# Altium footprint library Esp-01F Lib.PcbLib: 1 footprints
Each footprint in its own frame and in the unit in brackets; x right, y up, seen from the top. Pads: shape width x height; smd on the part's side, far side on the other; paste and mask are expansions set on the pad; w line width, h text height; cw(c..) or ccw(c..) is an arc to the next point about the centre after c.
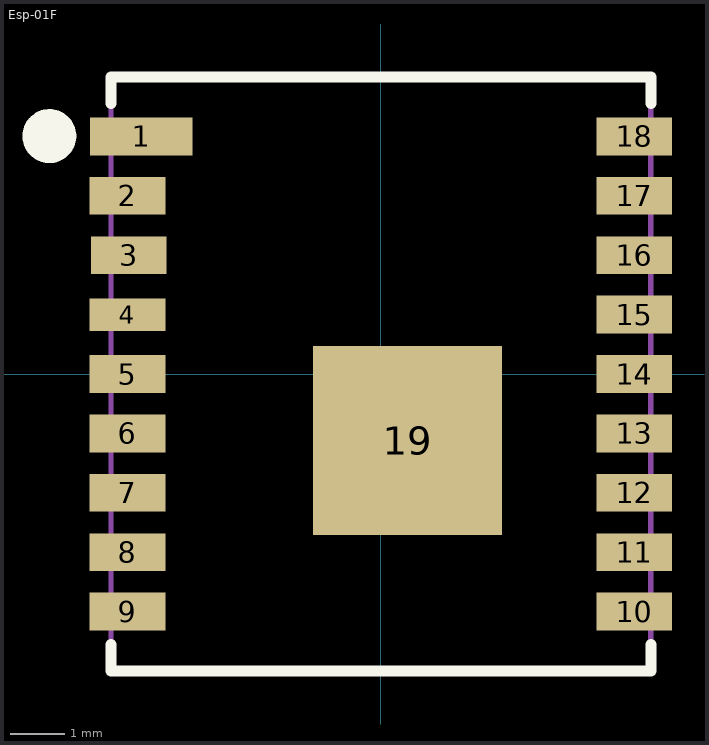
[diagram p0: the footprint, top view; thin cyan lines are the x and y axes]

## Esp-01F [mm]
pads (19):
  rect 1.9x0.7 smd: 1(-4.441,4.4)
  rect 1.4x0.7 smd: 2(-4.695,3.3) 3(-4.67,2.2) 5(-4.695,0) 6(-4.695,-1.1) 7(-4.695,-2.2) 8(-4.695,-3.3) 9(-4.695,-4.4) 10(4.695,-4.4) 11(4.695,-3.3) 12(4.695,-2.2) 13(4.695,-1.1) 14(4.695,0) 15(4.695,1.1) 16(4.695,2.2) 17(4.695,3.3) 18(4.695,4.4)
  rect 1.4x0.6 smd: 4(-4.695,1.1)
  rect 3.5x3.5 smd: 19(0.493,-1.233)
Top Overlay:
  circle w0.5: c-6.143,4.406 r0.25
  lines w0.2: -5,-5.008 -5,-5.5 5,-5.5 5,-5.008 ; -5,5.008 -5,5.5 5,5.5 5,5.008
Mechanical 15:
  lines w0.1: -5,-5.5 5,-5.5 5,5.5 -5,5.5 -5,-5.5